# Altium footprint library 452006250-3#NIBP涡轮驱动板V2.001.PcbLib: 80 footprints (part 2 of 5)
Each footprint in its own frame and in the unit in brackets; x right, y up, seen from the top. Pads: shape width x height; smd on the part's side, far side on the other; paste and mask are expansions set on the pad; w line width, h text height; cw(c..) or ccw(c..) is an arc to the next point about the centre after c.
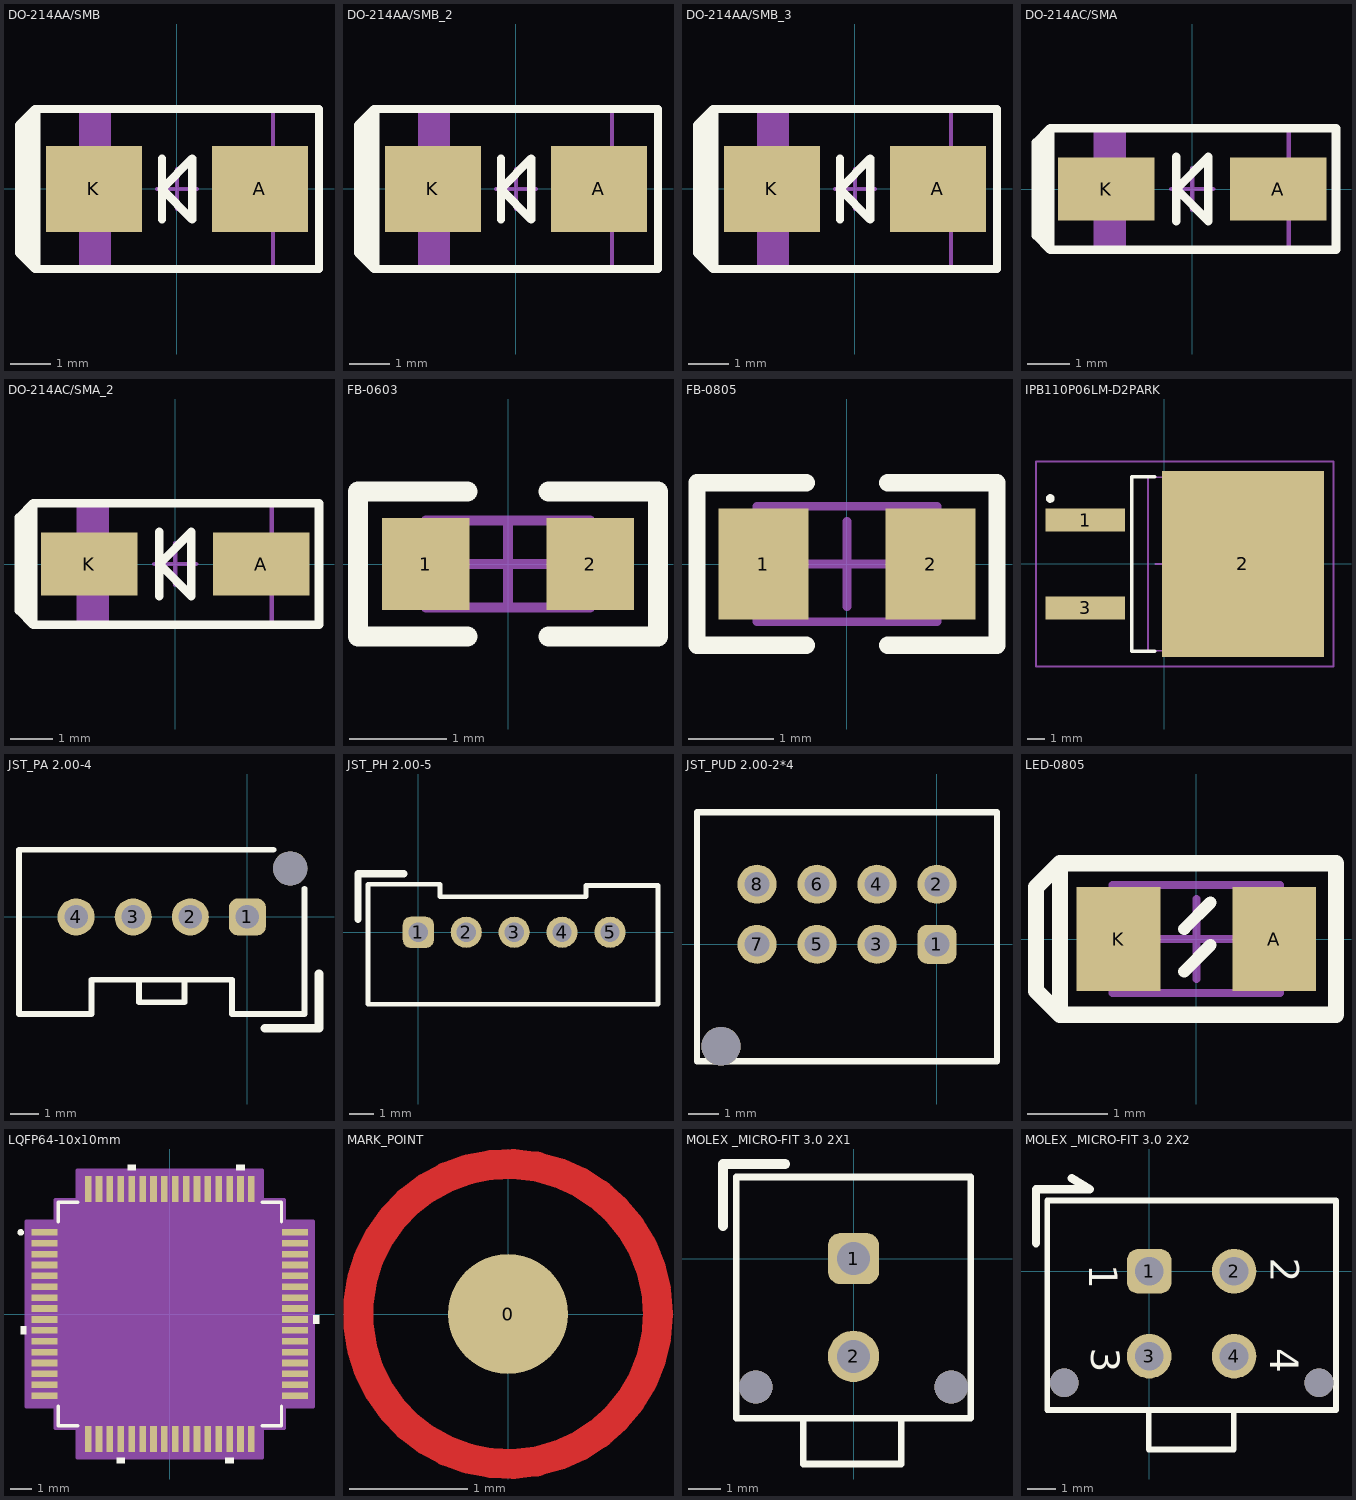
[diagram p1: the footprints below, top view; thin cyan lines are the x and y axes]

## DO-214AA/SMB [mm] "Molded Diode, 2-Leads, Body 5.34x3.62mm, IPC Medium Density"
height 2.62
pads (2):
  rect 2.4x2.15 smd: A(2.075,0) K(-2.075,0)
Top Overlay:
  region: -3.51,2 -3.91,1.6 -3.95,1.6 -3.95,-1.6 -3.55,-2 -3.51,-2
  lines w0.203: -0.375,-0.765 -0.375,0.765 ; -3.51,-2 -3.55,-2 -3.95,-1.6 -3.95,1.6 -3.55,2 -3.51,2 ; -3.51,-2 -3.51,2 ; -3.51,-2 3.55,-2 3.55,2 -3.51,2 ; -0.38,0 0.38,0.765 0.38,-0.765 -0.38,0
Mechanical 13:
  rectangle: -2.4,-1.97 -1.648,1.97
  lines w0.1: -2.4,-1.97 -2.4,1.97 2.4,1.97 2.4,-1.97 -2.4,-1.97
Mechanical 15:
  lines w0.1: -0.5,0 0.5,0 ; 0,-0.5 0,0.5
3D body: height 2.62, standoff 0, extent -2.4,-1.97 2.4,1.97

## DO-214AA/SMB_2 [mm]
pads (2):
  rect 2.4x2.15 smd: A(2.075,0) K(-2.075,0)
Top Overlay:
  region: -3.51,2 -3.91,1.6 -3.95,1.6 -3.95,-1.6 -3.55,-2 -3.51,-2
  lines w0.203: -0.375,-0.765 -0.375,0.765 ; -3.51,-2 -3.55,-2 -3.95,-1.6 -3.95,1.6 -3.55,2 -3.51,2 ; -3.51,-2 -3.51,2 ; -3.51,-2 3.55,-2 3.55,2 -3.51,2 ; -0.38,0 0.38,0.765 0.38,-0.765 -0.38,0
Mechanical 13:
  rectangle: -2.4,-1.97 -1.648,1.97
  lines w0.1: -2.4,-1.97 -2.4,1.97 2.4,1.97 2.4,-1.97 -2.4,-1.97
Mechanical 15:
  lines w0.1: -0.5,0 0.5,0 ; 0,-0.5 0,0.5
3D body: height 2.62, standoff 0, extent -2.4,-1.97 2.4,1.97

## DO-214AA/SMB_3 [mm]
pads (2):
  rect 2.4x2.15 smd: A(2.075,0) K(-2.075,0)
Top Overlay:
  region: -3.51,2 -3.91,1.6 -3.95,1.6 -3.95,-1.6 -3.55,-2 -3.51,-2
  lines w0.203: -0.375,-0.765 -0.375,0.765 ; -3.51,-2 -3.55,-2 -3.95,-1.6 -3.95,1.6 -3.55,2 -3.51,2 ; -3.51,-2 -3.51,2 ; -3.51,-2 3.55,-2 3.55,2 -3.51,2 ; -0.38,0 0.38,0.765 0.38,-0.765 -0.38,0
Mechanical 13:
  rectangle: -2.4,-1.97 -1.648,1.97
  lines w0.1: -2.4,-1.97 -2.4,1.97 2.4,1.97 2.4,-1.97 -2.4,-1.97
Mechanical 15:
  lines w0.1: -0.5,0 0.5,0 ; 0,-0.5 0,0.5
3D body: height 2.62, standoff 0, extent -2.4,-1.97 2.4,1.97

## DO-214AC/SMA [mm] "Molded Diode, 2-Leads, Body 4.33x2.56mm, IPC Medium Density"
height 2
pads (2):
  rect 2.3x1.5 smd: A(2.05,0) K(-2.05,0)
Top Overlay:
  region: -3.385,1.45 -3.725,1.11 -3.725,-1.05 -3.385,-1.39
  lines w0.203: -3.725,1.05 -3.725,-1.05 -3.725,-1.11 -3.385,-1.45 ; -3.725,1.11 -3.385,1.45 ; -0.38,-0.765 -0.38,0.765 ; -3.385,-1.45 3.425,-1.45 3.425,1.45 -3.385,1.45 ; -3.385,-1.45 -3.385,1.45 ; -0.38,0 0.38,0.765 0.38,-0.765 -0.38,0
Mechanical 13:
  rectangle: -2.3,-1.448 -1.583,1.45
  lines w0.1: -2.3,-1.45 2.3,-1.45 2.3,1.45 -2.3,1.45 -2.3,-1.45
Mechanical 15:
  lines w0.1: -0.5,0 0.5,0 ; 0,-0.5 0,0.5
3D body: height 2, standoff 0, extent -2.3,-1.45 2.3,1.45

## DO-214AC/SMA_2 [mm]
pads (2):
  rect 2.3x1.5 smd: A(2.05,0) K(-2.05,0)
Top Overlay:
  region: -3.385,1.45 -3.725,1.11 -3.725,-1.05 -3.385,-1.39
  lines w0.203: -3.725,1.05 -3.725,-1.05 -3.725,-1.11 -3.385,-1.45 ; -3.725,1.11 -3.385,1.45 ; -0.38,-0.765 -0.38,0.765 ; -3.385,-1.45 3.425,-1.45 3.425,1.45 -3.385,1.45 ; -3.385,-1.45 -3.385,1.45 ; -0.38,0 0.38,0.765 0.38,-0.765 -0.38,0
Mechanical 13:
  rectangle: -2.3,-1.448 -1.583,1.45
  lines w0.1: -2.3,-1.45 2.3,-1.45 2.3,1.45 -2.3,1.45 -2.3,-1.45
Mechanical 15:
  lines w0.1: -0.5,0 0.5,0 ; 0,-0.5 0,0.5
3D body: height 2, standoff 0, extent -2.3,-1.45 2.3,1.45

## FB-0603 [mm] "Chip Resistor, 2-Leads, Body 1.60x0.80mm, IPC Medium Density"
height 0.45
pads (2):
  rect 0.9x0.95 smd: 1(-0.85,0) 2(0.85,0)
Top Overlay:
  lines w0.203: -0.418,-0.75 -1.55,-0.75 -1.55,0.75 -0.418,0.75 ; 0.418,-0.75 1.55,-0.75 1.55,0.75 0.418,0.75
Mechanical 13:
  lines w0.1: -0.85,-0.45 -0.85,0.45 0.85,0.45 0.85,-0.45 -0.85,-0.45
Mechanical 15:
  lines w0.1: -0.45,0 0.45,0 ; 0,-0.45 0,0.45
3D body: height 0.45, standoff 0, extent -0.6,-0.45 0.6,0.45
3D body: height 0.45, standoff 0, extent -0.85,-0.45 -0.6,0.45
3D body: height 0.45, standoff 0, extent 0.6,-0.45 0.85,0.45

## FB-0805 [mm] "Chip Resistor, 2-Leads, Body 2.00x1.25mm, IPC Medium Density"
height 0.5
pads (2):
  rect 1.05x1.3 smd: 1(-0.975,0) 2(0.975,0)
Top Overlay:
  lines w0.203: -0.477,-0.95 -1.75,-0.95 -1.75,0.95 -0.477,0.95 ; 0.477,-0.95 1.75,-0.95 1.75,0.95 0.477,0.95
Mechanical 13:
  lines w0.1: -1.05,-0.675 1.05,-0.675 1.05,0.675 -1.05,0.675 -1.05,-0.675
Mechanical 15:
  lines w0.1: -0.5,0 0.5,0 ; 0,-0.5 0,0.5
3D body: height 0.5, standoff 0, extent 0.7,-0.675 1.05,0.675
3D body: height 0.5, standoff 0, extent -1.05,-0.675 -0.7,0.675
3D body: height 0.5, standoff 0, extent -0.7,-0.675 0.7,0.675

## IPB110P06LM-D2PARK [mm] "D2-PAK/TO-263-AB; 3 Leads (1 Cropped); Body 15.5 (inc. le"
height 4.69
pads (3):
  rect 4.6x1.35 smd paste+0 mask+0: 1(-4.575,2.55) 3(-4.575,-2.55)
  rect 9.4x10.8 smd paste+0 mask+0: 2(4.575,0)
Top Overlay:
  circle w0.25: c-6.6,3.8 r0.125
  lines w0.2: -0.525,-5.05 -1.875,-5.05 -1.875,5.05 -0.525,5.05
Mechanical 3:
  text ".DESIGNATOR" at 0,0 h1.2
Mechanical 13:
  lines w0.1: -0.933,-5.028 -0.933,5.027 8.047,5.027 8.047,-5.028 -0.933,-5.028
Mechanical 15:
  lines w0.1: -0.5,0 0.5,0 ; 0,-0.5 0,0.5 ; -7.425,-5.95 9.825,-5.95 9.825,5.95 -7.425,5.95 -7.425,-5.95
3D body "PG-TO263-3-2_C63078-A6544-C011-10-0004.stp": height 4.51, standoff 0, extent -6.275,-5 8.675,5

## JST_PA 2.00-4 [mm]
pads (5):
  rrect50% 1.3x1.3 hole 0.82: 1(0,0)
  round 1.3 hole 0.82: 2(-2,0) 3(-4,0) 4(-6,0)
  round 1.2 hole 1.2 unplated: ""(1.5,1.7)
Top Overlay:
  lines w0.2: -8,-3.4 -8,2.356 0.911,2.356 ; 2,-3.401 2,0.984
  lines w0.203: -8,-3.4 -5.46,-3.4 -5.46,-2.199 ; -3.8,-2.991 -2.2,-2.991 -2.2,-2.2 ; -3.8,-2.953 -3.8,-2.199 ; 2,-3.401 -0.54,-3.401 -0.54,-2.199 -5.46,-2.199 ; -5.46,-2.199 -5.46,-2.199
  lines w0.3: 0.602,-3.903 2.507,-3.903 2.507,-1.998
3D body "B04B-PASK-1.STEP": height 7.75, standoff -2.95, extent -8,-3.1 2,2.2

## JST_PH 2.00-5 [mm]
height 12.75
pads (5):
  rrect50% 1.3x1.3 hole 0.8: 1(0,0)
  round 1.3 hole 0.8: 2(2,0) 3(4,0) 4(6,0) 5(8,0)
Top Overlay:
  lines w0.2: 0.9,1.479 7,1.479 7,1.947 10,1.947 10,-3 -2.1,-3 -2.1,2 0.9,2 0.9,1.532
  lines w0.3: -2.515,0.533 -2.515,2.438 -0.61,2.438
3D body "B5B-PH-K-S.STEP": height 6, standoff -3.4, extent -1.95,-2.8 9.95,1.7

## JST_PUD 2.00-2*4 [mm]
pads (9):
  rrect50% 1.3x1.3 hole 0.82: 1(0,0)
  round 1.3 hole 0.82: 2(0,2) 3(-2,0) 4(-2,2) 5(-4,0) 6(-4,2) 7(-6,0) 8(-6,2)
  round 1.3 hole 1.3 unplated: ""(-7.2,-3.4)
Top Overlay:
  lines w0.203: -5.246,-3.9 -8,-3.9 ; -8,-3.9 -8,4.4 2,4.4 2,-3.9 -8,-3.9
3D body "B08B-PUDSS-1.STEP": height 9.6, standoff -3.1, extent -8,-3.925 2,4.375

## LED-0805 [mm] "Molded Diode, 2-Leads, Body 1.20x0.80mm, IPC Medium Density"
height 0.7
pads (2):
  rect 1.05x1.3 smd: A(0.975,0) K(-0.975,0)
Top Overlay:
  lines w0.152: -0.152,-0.406 0.178,-0.076 ; -0.152,0.127 0.178,0.457
  lines w0.203: -1.71,-0.95 -2.01,-0.65 -2.01,0.65 -1.71,0.95 ; -1.71,-0.95 -1.71,0.95 ; -1.71,-0.95 1.75,-0.95 1.75,0.95 -1.71,0.95
Mechanical 13:
  lines w0.1: -1.05,-0.675 -1.05,0.675 1.05,0.675 1.05,-0.675 -1.05,-0.675
Mechanical 15:
  lines w0.1: -0.5,0 0.5,0 ; 0,-0.5 0,0.5
3D body: height 0.5, standoff 0, extent -0.7,-0.675 0.7,0.675
3D body: height 0.5, standoff 0, extent -1.05,-0.675 -0.7,0.675
3D body: height 0.5, standoff 0, extent 0.7,-0.675 1.05,0.675

## LQFP64-10x10mm [mm]
pads (64):
  rect 1.194x0.305 smd paste+0 mask+0: 1(-5.75,3.75) 2(-5.75,3.25) 3(-5.75,2.75) 4(-5.75,2.25) 5(-5.75,1.75) 6(-5.75,1.25) 7(-5.75,0.75) 8(-5.75,0.25) 9(-5.75,-0.25) 10(-5.75,-0.75) 11(-5.75,-1.25) 12(-5.75,-1.75) 13(-5.75,-2.25) 14(-5.75,-2.75) 15(-5.75,-3.25) 16(-5.75,-3.75) 33(5.75,-3.75) 34(5.75,-3.25) 35(5.75,-2.75) 36(5.75,-2.25) 37(5.75,-1.75) 38(5.75,-1.25) 39(5.75,-0.75) 40(5.75,-0.25) 41(5.75,0.25) 42(5.75,0.75) 43(5.75,1.25) 44(5.75,1.75) 45(5.75,2.25) 46(5.75,2.75) 47(5.75,3.25) 48(5.75,3.75)
  rect 0.305x1.194 smd paste+0 mask+0: 17(-3.75,-5.75) 18(-3.25,-5.75) 19(-2.75,-5.75) 20(-2.25,-5.75) 21(-1.75,-5.75) 22(-1.25,-5.75) 23(-0.75,-5.75) 24(-0.25,-5.75) 25(0.25,-5.75) 26(0.75,-5.75) 27(1.25,-5.75) 28(1.75,-5.75) 29(2.25,-5.75) 30(2.75,-5.75) 31(3.25,-5.75) 32(3.75,-5.75) 49(3.75,5.75) 50(3.25,5.75) 51(2.75,5.75) 52(2.25,5.75) 53(1.75,5.75) 54(1.25,5.75) 55(0.75,5.75) 56(0.25,5.75) 57(-0.25,5.75) 58(-0.75,5.75) 59(-1.25,5.75) 60(-1.75,5.75) 61(-2.25,5.75) 62(-2.75,5.75) 63(-3.25,5.75) 64(-3.75,5.75)
Top Overlay:
  circle w0.152: c-6.851,3.75 r0.076
  region: -1.559,6.601 -1.94,6.601 -1.94,6.855 -1.559,6.855
  region: 3.441,6.601 3.06,6.601 3.06,6.855 3.441,6.855
  region: 6.601,-0.059 6.855,-0.059 6.855,-0.44 6.601,-0.44
  region: 2.94,-6.601 2.559,-6.601 2.559,-6.855 2.94,-6.855
  region: -2.06,-6.601 -2.441,-6.601 -2.441,-6.855 -2.06,-6.855
  region: -6.601,-0.56 -6.855,-0.56 -6.855,-0.941 -6.601,-0.941
  lines w0.152: -5.131,-4.234 -5.131,-5.131 -4.234,-5.131 ; -5.131,4.234 -5.131,5.131 -4.234,5.131 ; 4.234,-5.131 5.131,-5.131 5.131,-4.234 ; 4.234,5.131 5.131,5.131 5.131,4.234
Mechanical 13:
  circle w0: c-4.518,3.75 r0.076
  lines w0.025: -5.004,3.734 -3.734,5.004 ; -5.004,-5.004 -5.004,5.004 5.004,5.004 5.004,-5.004 -5.004,-5.004
Mechanical 15:
  region: -4.258,-5.258 -5.258,-5.258 -5.258,-4.258 -6.601,-4.258 -6.601,4.258 -5.258,4.258 -5.258,5.258 -4.258,5.258 -4.258,6.601 4.258,6.601 4.258,5.258 5.258,5.258 5.258,4.258 6.601,4.258 6.601,-4.258 5.258,-4.258 5.258,-5.258 4.258,-5.258 4.258,-6.601 -4.258,-6.601
  lines w0.152: -6.601,-4.258 -6.601,4.258 -5.258,4.258 -5.258,5.258 -4.258,5.258 -4.258,6.601 4.258,6.601 4.258,5.258 5.258,5.258 5.258,4.258 6.601,4.258 6.601,-4.258 5.258,-4.258 5.258,-5.258 4.258,-5.258 4.258,-6.601 -4.258,-6.601 -4.258,-5.258 -5.258,-5.258 -5.258,-4.258 -6.601,-4.258
3D body "LQFP64-10x10mm.step": height 1.6, standoff 0, extent -5.997,-5.997 5.997,5.997

## MARK_POINT [mil]
height 236.22
pads (1):
  round 40 smd: 0(0,0)
Top Layer:
  circle w10: c0,0 r50
Top Solder:
  circle w20: c0,0 r30

## MOLEX _MICRO-FIT 3.0 2X1 [mil]
height 393.7
pads (2):
  rrect50% 62x62 hole 40: 1(0,0)
  round 62 hole 40: 2(0,-118.11)
via 118.11,-155.12 diameter 40.16 hole 40.16
via -118.11,-155.12 diameter 40.16 hole 40.16
Top Overlay:
  lines w8: 57.44,-192.91 57.44,-248.03 -60.67,-248.03 ; -60.67,-248.03 -60.67,-192.91 -60.67,-248.03 ; -141.73,-192.91 141.73,-192.91 141.73,98.43 -141.73,98.43 -141.73,-192.91
  lines w11.81: -157.48,39.17 -157.48,114.17 -82.48,114.17
3D body "430450227.stp": height 391.93, standoff -123.43, extent -140.75,-249.21 140.75,96.06

## MOLEX _MICRO-FIT 3.0 2X2 [mil]
height 393.7
pads (4):
  rrect50% 62x62 hole 40: 1(0,0)
  round 62 hole 40: 2(118.11,0) 3(0,-118.11) 4(118.11,-118.11)
via -118.11,-155.12 diameter 40.16 hole 40.16
via 236.22,-155.12 diameter 40.16 hole 40.16
Top Overlay:
  lines w8: -0.67,-192.91 -0.67,-248.03 117.44,-248.03 117.44,-192.91 ; -141.73,-192.91 -141.73,98.43 259.84,98.43 259.84,-192.91 -141.73,-192.91
  lines w11.81: -157.48,39.17 -157.48,114.17 -82.48,114.17 -107.48,129.17
  text "2" at 169.29,18.7 h39.37
  text "3" at -80.71,-106.3 h39.37
  text "4" at 168.31,-107.28 h39.37
  text "1" at -83.66,9.84 h39.37
3D body "430450427.stp": height 391.93, standoff -123.43, extent -140.75,-249.22 258.85,96.06